# EAGLE library part 75192 (library 751xx)
75xxx DEVICE
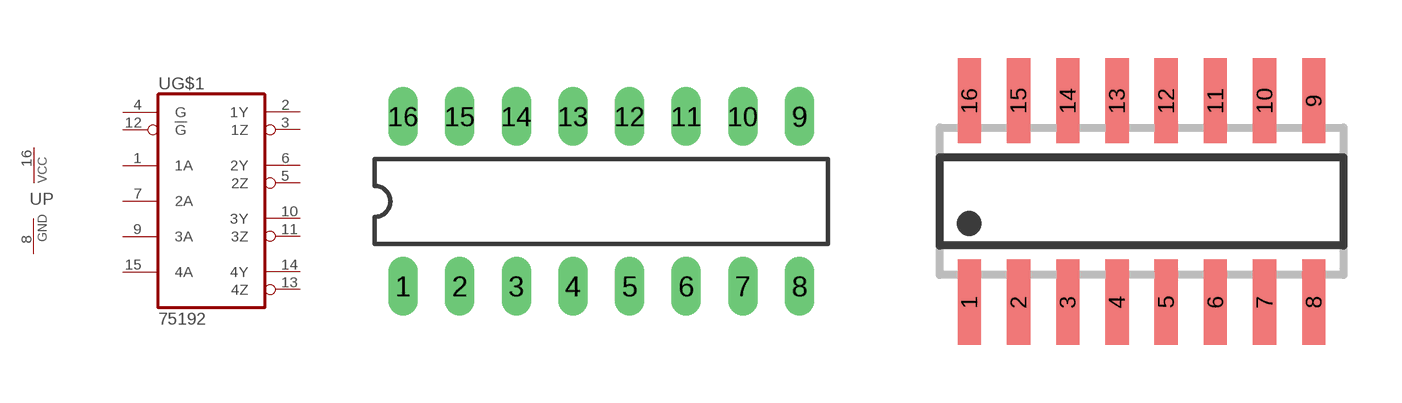
[diagram p0: symbol with the pads of DIL16; footprints DIL16, SO16]

Designator prefix U; gates G$1=75192 P=PWRN

## 75192P  [DIL16]
1  G$1:1A  in
2  G$1:1Y  out
3  G$1:1Z  out
4  G$1:G  in
5  G$1:2Z  out
6  G$1:2Y  out
7  G$1:2A  in
8  P:GND  pwr
9  G$1:3A  in
10  G$1:3Y  out
11  G$1:3Z  out
12  G$1:!G  in
13  G$1:4Z  out
14  G$1:4Y  out
15  G$1:4A  in
16  P:VCC  pwr

## 75192SO  [SO16]
Pads as for DIL16

## Footprint DIL16 (pad centres in mm)
Dual In Line Package
drill 0.813 long: 1 -8.89,-3.81; 2 -6.35,-3.81; 3 -3.81,-3.81; 4 -1.27,-3.81; 5 1.27,-3.81; 6 3.81,-3.81; 7 6.35,-3.81; 8 8.89,-3.81; 9 8.89,3.81; 10 6.35,3.81; 11 3.81,3.81; 12 1.27,3.81; 13 -1.27,3.81; 14 -3.81,3.81; 15 -6.35,3.81; 16 -8.89,3.81

## Footprint SO16 (pad centres in mm)
SMALL OUTLINE INTEGRATED CIRCUIT body 3.9 mm/JEDEC MS-012AC
smd 0.6 x 2.2: 1 -4.445,-2.6; 2 -3.175,-2.6; 3 -1.905,-2.6; 4 -0.635,-2.6; 5 0.635,-2.6; 6 1.905,-2.6; 7 3.175,-2.6; 8 4.445,-2.6; 9 4.445,2.6; 10 3.175,2.6; 11 1.905,2.6; 12 0.635,2.6; 13 -0.635,2.6; 14 -1.905,2.6; 15 -3.175,2.6; 16 -4.445,2.6